# Altium schematic symbol library ESP.SchLib: 1 symbol
Pins are listed as number, name and electrical type; pins without a type are passive.

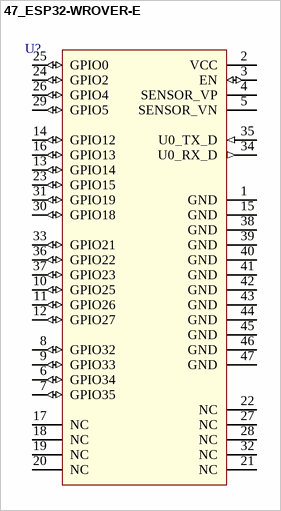
[diagram p0: symbol 47_ESP32-WROVER-E]

## 47_ESP32-WROVER-E
designator U?  (value not drawn)
200MHz clock , output P = 20 dBm, Ub =3V-3.6V, BLE + bluetooth 4.2
pins: 1 GND (power), 2 VCC (power), 3 EN (io), 4 SENSOR_VP, 5 SENSOR_VN, 6 GPIO34 (io), 7 GPIO35 (io), 8 GPIO32 (io), 9 GPIO33 (io), 10 GPIO25 (io), 11 GPIO26 (io), 12 GPIO27 (io), 13 GPIO14 (io), 14 GPIO12 (io), 15 GND (power), 16 GPIO13 (io), 17 NC, 18 NC, 19 NC, 20 NC, 21 NC, 22 NC, 23 GPIO15 (io), 24 GPIO2 (io), 25 GPIO0 (io), 26 GPIO4 (io), 27 NC, 28 NC, 29 GPIO5 (io), 30 GPIO18 (io), 31 GPIO19 (io), 32 NC, 33 GPIO21 (io), 34 U0_RX_D (out), 35 U0_TX_D (in), 36 GPIO22 (io), 37 GPIO23 (io), 38 GND (power), 39 GND (power), 40 GND (power), 41 GND (power), 42 GND (power), 43 GND (power), 44 GND (power), 45 GND (power), 46 GND (power), 47 GND (power)